# Altium schematic symbol library symbols.SchLib: 49 symbols
Pins are listed as number, name and electrical type; pins without a type are passive.

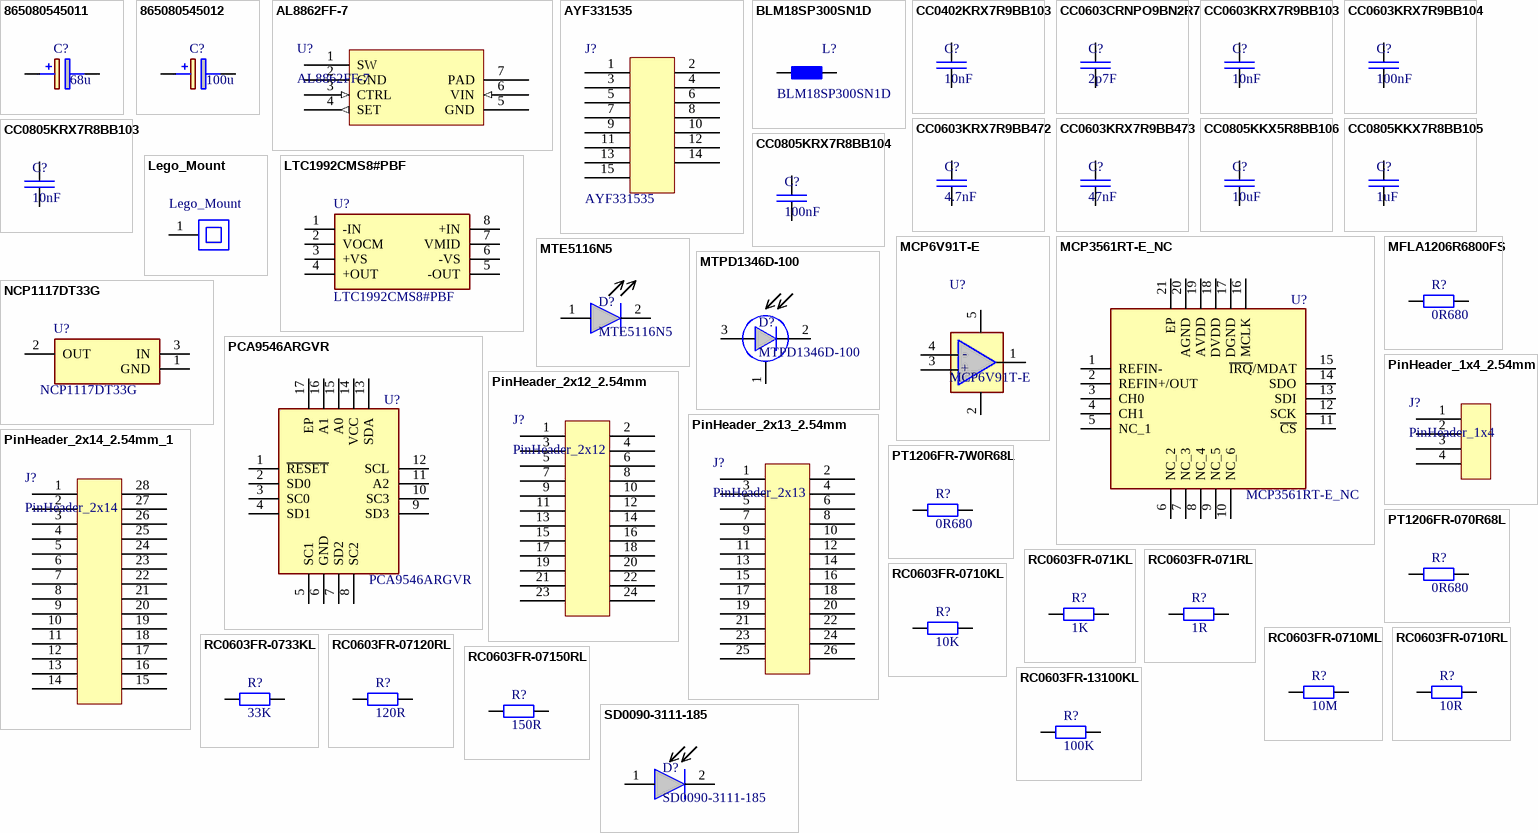
[diagram p0: symbols 865080545011 to SD0090-3111-185]

## 865080545011
designator C?, comment 68u
Wurth Elektronik 68uF 35 V dc Aluminium Electrolytic Capacitor, WCAP-ASLI Series 2000h 6.3 (Dia.) x 7.55mm; Manufacturer_Part_Number: 865080545012; Geometry.Height: 7.7mm; Mouser Part Number: 710-865080545012; Mouser Price/Stock: https://www.mouser.co.uk/ProductDetail/Wurth-Elektronik/865080545012?qs=0KOYDY2FL297tvB6LOdg5A%3D%3D; Manufacturer_Name: Wurth Elektronik; Datasheet Link: http://katalog.we-online.de/pbs/datasheet/865080545012.pdf; Value: 68u; Supplier 1: Digi-Key; Supplier Part Number 1: 732-8510-1-ND; Supplier 2: Digi-Key; Supplier Part Number 2: 732-8510-6-ND; Supplier 3: Mouser; Supplier Part Number 3: 710-865080545011
footprint CAPAE660X770N
pins: 1 +, 2 -

## 865080545012
designator C?, comment 100u
Wurth Elektronik 100uF 35 V dc Aluminium Electrolytic Capacitor, WCAP-ASLI Series 2000h 6.3 (Dia.) x 7.55mm; Manufacturer_Part_Number: 865080545012; Geometry.Height: 7.7mm; Mouser Part Number: 710-865080545012; Mouser Price/Stock: https://www.mouser.co.uk/ProductDetail/Wurth-Elektronik/865080545012?qs=0KOYDY2FL297tvB6LOdg5A%3D%3D; Manufacturer_Name: Wurth Elektronik; Datasheet Link: http://katalog.we-online.de/pbs/datasheet/865080545012.pdf; Value: 100u; Supplier 1: Digi-Key; Supplier Part Number 1: 732-8511-1-ND; Supplier 2: Digi-Key; Supplier Part Number 2: 732-8511-6-ND; Supplier 3: Mouser; Supplier Part Number 3: 710-865080545012
footprint CAPAE660X770N
pins: 1 +, 2 -

## AL8862FF-7
designator U?
AL8862FF-7 60V 1A STEP-DOWN LED DRIVER DFN; Supplier 1: Digi-Key; Supplier Part Number 1: 31-AL8862FF-7CT-ND; Supplier 2: Digi-Key; Supplier Part Number 2: 31-AL8862FF-7DKR-ND; Supplier 3: Mouser; Supplier Part Number 3: 621-AL8862FF-7
footprint AL8862FF-7 (AL8862FF-7 60V 1A STEP-DOWN LED DRIVER)
pins: 1 SW, 2 GND, 3 CTRL (in), 4 SET (out), 5 GND, 6 VIN (in), 7 PAD

## AYF331535
designator J?
AYF331535 FFC & FPC-Steckverbinder CONNECTOR SURFACE MOUNT; Supplier 1: Mouser; Supplier Part Number 1: 769-AYF331535; Supplier 2: Digi-Key; Supplier Part Number 2: 255-3053-1-ND
footprint AYF331535 (AYF331535 FFC & FPC-Steckverbinder CONNECTOR SURFACE MOUNT)
pins: 1, 2, 3, 4, 5, 6, 7, 8, 9, 10, 11, 12, 13, 14, 15

## BLM18SP300SN1D
designator L?
Ferrite Beads 0603 30ohm 10% 6A; Manufacturer_Name: Murata Electronics; Geometry.Height: 0.95mm; Mouser Part Number: 81-BLM18SP300SN1D; Mouser Price/Stock: https://www.mouser.co.uk/ProductDetail/Murata-Electronics/BLM18SP300SN1D?qs=W%2FMpXkg%252BdQ4o%252BOP%252B6m8FYA%3D%3D; Manufacturer_Part_Number: BLM18SP300SN1D; Datasheet Link: http://www.murata.com/~/media/webrenewal/support/library/catalog/products/emc/emifil/c31e.ashx?la=en-gb; Supplier 1: Digi-Key; Supplier Part Number 1: 490-BLM18SP300SN1DCT-ND; Supplier 2: Digi-Key; Supplier Part Number 2: 490-BLM18SP300SN1DDKR-ND; Supplier 3: Mouser; Supplier Part Number 3: 81-BLM18SP300SN1D
footprint Chip2PinSM127P600-8N
pins: 1, 2

## CC0402KRX7R9BB103
designator C?, comment 10nF
CAP 10nF SM0402 X7R 50V YAGEO CC2; Manufacturer Part Number: CC0603KRX7R9BB103; Tolerance (%): 10; Voltage Rating (Volts): 50; Category: Capacitor; Manufacturer: Yageo; Package: 0603; Value: 10nF; ComponentLink1URL: http://www.yageo.com; ComponentLink1Description: Manufacturer Website; Supplier 1: Farnell; Supplier Part Number 1: 3369167; Supplier 2: Mouser; Supplier Part Number 2: 603-CC402KRX7R9BB103; Supplier 3: Digi-Key; Supplier Part Number 3: 311-1349-1-ND
footprint CAP_SM0402_YAGEOCC2_N (Capacitor, Yageo CC Class2, SM0402, IPC Medium Density)
pins: 1, 2

## CC0603CRNPO9BN2R7
designator C?, comment 2p7F
CAP 2.7pF (2p7F) SM0603 NPO 50V YAGEO CC2; Manufacturer Part Number: CC0603CRNPO9BN2R7; Tolerance (%): 10; Voltage Rating (Volts): 50; Category: Capacitor; Manufacturer: Yageo; Package: 0603; Value: 2p7F; Supplier Part Number 1: 721890; Supplier 1: Farnell; ComponentLink1URL: http://www.yageo.com; ComponentLink1Description: Manufacturer Website; Supplier 2: Digi-Key
footprint CAP_SM0603_YAGEOCC2_N (Capacitor, Yageo CC Class2, SM0603, IPC Medium Density)
pins: 1, 2

## CC0603KRX7R9BB103
designator C?, comment 10nF
CAP 10nF SM0603 X7R 50V YAGEO CC2; Manufacturer Part Number: CC0603KRX7R9BB103; Tolerance (%): 10; Voltage Rating (Volts): 50; Category: Capacitor; Manufacturer: Yageo; Package: 0603; Value: 10nF; Supplier Part Number 1: 722236; Supplier 1: Farnell; ComponentLink1URL: http://www.yageo.com; ComponentLink1Description: Manufacturer Website; Supplier 2: Digi-Key; Supplier Part Number 2: 311-1085-1-ND
footprint CAP_SM0603_YAGEOCC2_N (Capacitor, Yageo CC Class2, SM0603, IPC Medium Density)
pins: 1, 2

## CC0603KRX7R9BB104
designator C?, comment 100nF
CAP 100nF SM0603 X7R 50V YAGEO CC2; Manufacturer Part Number: CC0603KRX7R9BB104; Tolerance (%): 10; Voltage Rating (Volts): 50; Category: Capacitor; Manufacturer: Yageo; Package: 0603; Value: 100nF; ComponentLink1URL: http://www.yageo.com; ComponentLink1Description: Manufacturer Website; Supplier 1: Farnell; Supplier Part Number 1: 1362556; Supplier 2: Mouser; Supplier Part Number 2: 603-CC603KRX7R9BB104
footprint CAP_SM0603_YAGEOCC2_N (Capacitor, Yageo CC Class2, SM0603, IPC Medium Density)
pins: 1, 2

## CC0603KRX7R9BB472
designator C?, comment 4.7nF
CAP 4.7nF SM0603 X7R 50V YAGEO CC2; Manufacturer Part Number: CC0603KRX7R9BB223; Tolerance (%): 10; Voltage Rating (Volts): 50; Category: Capacitor; Manufacturer: Yageo; Package: 0603; Value: 4.7nF; ComponentLink1URL: http://www.yageo.com; ComponentLink1Description: Manufacturer Website; Supplier 1: Digi-Key; Supplier Part Number 1: 311-1083-1-ND; Supplier 2: Digi-Key; Supplier Part Number 2: 311-1083-6-ND; Supplier 3: Mouser; Supplier Part Number 3: 603-C0603KRX7R9BB472
footprint CAP_SM0603_YAGEOCC2_N (Capacitor, Yageo CC Class2, SM0603, IPC Medium Density)
pins: 1, 2

## CC0603KRX7R9BB473
designator C?, comment 47nF
CAP 47nF SM0603 X7R 50V YAGEO CC2; Manufacturer Part Number: CC0603KRX7R9BB223; Tolerance (%): 10; Voltage Rating (Volts): 50; Category: Capacitor; Manufacturer: Yageo; Package: 0603; Value: 47nF; ComponentLink1URL: http://www.yageo.com; ComponentLink1Description: Manufacturer Website; Supplier 1: Digi-Key; Supplier Part Number 1: 311-1427-1-ND; Supplier 2: Digi-Key; Supplier Part Number 2: 311-1427-6-ND; Supplier 3: Mouser; Supplier Part Number 3: 603-C0603KRX7R9BB473
footprint CAP_SM0603_YAGEOCC2_N (Capacitor, Yageo CC Class2, SM0603, IPC Medium Density)
pins: 1, 2

## CC0805KKX5R8BB106
designator C?, comment 10uF
CAP 10uF SM0805 X5R 16V YAGEO CC2; Manufacturer Part Number: CC0805KKX7R8BB225; Tolerance (%): 10; Voltage Rating (Volts): 25; Category: Capacitor; Manufacturer: Yageo; Package: 0805; Value: 10uF; Supplier Part Number 1: 1458904; Supplier 1: Farnell; ComponentLink1URL: http://www.yageo.com; ComponentLink1Description: Manufacturer Website; Supplier 2: Digi-Key
footprint CAP_SM0805_YAGEOCC2_N (Capacitor, Yageo CC Class2, SM0805, IPC Medium Density)
pins: 1, 2

## CC0805KKX7R8BB105
designator C?, comment 1uF
CAP 1uF SM0805 X7R 25V YAGEO CC2; Manufacturer Part Number: CC0805KKX7R8BB105; Tolerance (%): 10; Voltage Rating (Volts): 25; Category: Capacitor; Manufacturer: Yageo; Package: 0805; Value: 1uF; ComponentLink1URL: http://www.yageo.com; ComponentLink1Description: Manufacturer Website; Supplier 1: Farnell; Supplier Part Number 1: 1458903; Supplier 2: Digi-Key; Supplier Part Number 2: 311-1456-1-ND; Supplier 3: Mouser; Supplier Part Number 3: 603-CC805KKX7R8BB105
footprint CAP_SM0805_YAGEOCC2_N (Capacitor, Yageo CC Class2, SM0805, IPC Medium Density)
pins: 1, 2

## CC0805KRX7R8BB103
designator C?, comment 10nF
CAP 10nF SM0805 X7R 25V YAGEO CC2; Manufacturer Part Number: CC0805KRX7R8BB103; Tolerance (%): 10; Voltage Rating (Volts): 25; Category: Capacitor; Manufacturer: Yageo; Package: 0805; Value: 10nF; Supplier Part Number 1: 3019767; Supplier 1: Farnell; ComponentLink1URL: http://www.yageo.com; ComponentLink1Description: Manufacturer Website
footprint CAP_SM0805_YAGEOCC2_N (Capacitor, Yageo CC Class2, SM0805, IPC Medium Density)
pins: 1, 2

## CC0805KRX7R8BB104
designator C?, comment 100nF
CAP 100nF SM0805 X7R 25V YAGEO CC2; Manufacturer Part Number: CC0805KRX7R8BB104; Tolerance (%): 10; Voltage Rating (Volts): 25; Category: Capacitor; Manufacturer: Yageo; Package: 0805; Value: 100nF; ComponentLink1URL: http://www.yageo.com; ComponentLink1Description: Manufacturer Website; Supplier 1: Farnell; Supplier Part Number 1: 644249; Supplier 2: Digi-Key; Supplier Part Number 2: 311-1141-1-ND; Supplier 3: Mouser; Supplier Part Number 3: 603-CC805KRX7R8BB104
footprint CAP_SM0805_YAGEOCC2_N (Capacitor, Yageo CC Class2, SM0805, IPC Medium Density)
pins: 1, 2

## Lego_Mount
designator M?
footprint Lego_Mount
pins: 1

## LTC1992CMS8#PBF
designator U?
LTC1992CMS8#PBF Analog Devices, Differential Amplifier 3MHz Rail to Rail Output 8-Pin MSOP; Geometry.Height: 1.1mm; Mouser Part Number: 584-LTC1992CMS8#PBF; Mouser Price/Stock: https://www.mouser.co.uk/ProductDetail/Analog-Devices/LTC1992CMS8PBF?qs=hVkxg5c3xu9zI7TrZNbtXw%3D%3D; Manufacturer_Name: Analog Devices; Manufacturer_Part_Number: LTC1992CMS8#PBF; Datasheet Link: *; Supplier 1: Digi-Key; Supplier Part Number 1: 505-LTC1992CMS8#PBF-ND; Supplier 2: Mouser; Supplier Part Number 2: 584-LTC1992CMS8#PBF
footprint SOP65P490X110-8N
pins: 1 -IN, 2 VOCM, 3 +VS, 4 +OUT, 5 -OUT, 6 -VS, 7 VMID, 8 +IN

## MCP6V91T-E
designator U?
MCP6V91T-E, Precision Amplifiers Zero Drift Op Amp Single, E Temp; Manufacturer_Name: Texas Instruments; Manufacturer_Part_Number: TLC272CDR; Geometry.Height: 1.75mm; Mouser Part Number: 595-TLC272CDR; Mouser Price/Stock: https://www.mouser.co.uk/ProductDetail/Texas-Instruments/TLC272CDR?qs=xJkDX%2FqrskPeOaaOE3DKWA%3D%3D; Datasheet Link: http://www.ti.com/lit/ds/symlink/tlc272.pdf; Supplier 1: Mouser; Supplier Part Number 1: 595-TLC272CDR; Supplier 2: Digi-Key; Supplier Part Number 2: 296-1310-1-ND; Supplier 3: Digi-Key; Supplier Part Number 3: 296-1310-6-ND
footprint SOT23127P600-8N
pins: 1 VOUT, 2 VSS, 3 VIN+, 4 VIN-, 5 VDD
text: -; +

## MCP3561RT-E_NC
designator U?
Microchip, 24 bit- ADC 153.6ksps, 20-Pin UQFN; Manufacturer_Part_Number: MCP3561RT-E/NC; Geometry.Height: 0.6mm; Mouser Part Number: 579-MCP3561RT-E/NC; Mouser Price/Stock: https://www.mouser.co.uk/ProductDetail/Microchip-Technology-Atmel/MCP3561RT-E-NC?qs=W%2FMpXkg%252BdQ521c60%252BgBGPA%3D%3D; Manufacturer_Name: Microchip; Datasheet Link: https://www.microchip.com/content/dam/mchp/documents/APID/ProductDocuments/DataSheets/MCP3561_2_4R-Data-Sheet-DS200006391C.pdf; Supplier 1: Digi-Key; Supplier Part Number 1: 150-MCP3561RT-E/NCCT-ND; Supplier 2: Digi-Key; Supplier Part Number 2: 150-MCP3561RT-E/NCDKR-ND; Supplier 3: Mouser; Supplier Part Number 3: 579-MCP3561RT-E/NC
footprint QFN40P300X300X60-21N-D
pins: 1 REFIN-, 2 REFIN+/OUT, 3 CH0, 4 CH1, 5 NC_1, 6 NC_2, 7 NC_3, 8 NC_4, 9 NC_5, 10 NC_6, 11 ~{CS}, 12 SCK, 13 SDI, 14 SDO, 15 ~{IRQ}/MDAT, 16 MCLK, 17 DGND, 18 DVDD, 19 AVDD, 20 AGND, 21 EP

## MFLA1206R6800FS
designator R?, comment 0R680
RES 0R680 SM1206 Eaton 500mW; Manufacturer: Yageo; Manufacturer Part Number: RC0603FR-07150RL; Power (Watts): 0.1; Resistance (Ohms): 150; Tolerance (%): 1; Category: Resistor; Package: 0603; Value: 0R680; ComponentLink1URL: http://www.yageo.com; ComponentLink1Description: Manufacturer Website; Supplier 1: Digi-Key; Supplier Part Number 1: 283-MFLA1206R6800FSCT-ND; Supplier 2: Digi-Key; Supplier Part Number 2: 283-MFLA1206R6800FSDKR-ND; Supplier 3: Mouser; Supplier Part Number 3: 504-MFLA1206R6800FS
footprint MFLA1206 (Footprint not found)
pins: 1, 2

## MTE5116N5
designator D?
MTE5116N5 SWIR Infrared Emitter 1650nm; Supplier 1: Digi-Key; Supplier Part Number 1: 1125-MTE5116N5-ND; Supplier 2: Mouser; Supplier Part Number 2: 193-MTE5116N5
footprint MTE5116N5
pins: 1 Anode, 2 Cathode

## MTPD1346D-100
designator D?
MTPD1346D-100 High Speed InGaAs PIN Photodiode 600-1750nm; Supplier 1: Digi-Key; Supplier Part Number 1: 1125-1326-ND; Supplier 2: Mouser; Supplier Part Number 2: 193-MTPD1346D-100
footprint MTPD1346D100
pins: 1 Case, 2 Cathode, 3 Anode

## NCP1117DT33G
designator U?
Linear Voltage Regulator IC Positive Fixed 1 Output 1A DPAK; Manufacturer_Name: onsemi; Geometry.Height: 2.51mm; Mouser Part Number: 863-NCP1117DT33G; Mouser Price/Stock: https://www.mouser.co.uk/ProductDetail/onsemi/NCP1117DT33G?qs=Gev%252BmEvV0ib8cFCgG6Q0fQ%3D%3D; Manufacturer_Part_Number: NCP1117DT33G; Datasheet Link: https://www.onsemi.com/pdf/datasheet/ncp1117-d.pdf; Supplier 1: Mouser; Supplier Part Number 1: 863-NCP1117DT33G; Supplier 2: Digi-Key; Supplier Part Number 2: NCP1117DT33GOS-ND
footprint NCP1117DT33G
pins: 1 GND, 2 OUT, 3 IN

## PCA9546ARGVR
designator U?
4-Channel I2C And SMBus Switch With Reset Functions; Manufacturer_Name: Texas Instruments; Geometry.Height: 1mm; Mouser Part Number: 595-PCA9546ARGVR; Mouser Price/Stock: https://www.mouser.co.uk/ProductDetail/Texas-Instruments/PCA9546ARGVR?qs=iSMark9AYDVOIxSBd0ujBA%3D%3D; Manufacturer_Part_Number: PCA9546ARGVR; Datasheet Link: http://www.ti.com/lit/gpn/pca9546a; Supplier 1: Mouser; Supplier Part Number 1: 595-PCA9546ARGVR; Supplier 2: Digi-Key; Supplier Part Number 2: 296-21771-1-ND; Supplier 3: Digi-Key; Supplier Part Number 3: 296-21771-6-ND
footprint QFN65P400X400X100-17N-D
pins: 1 ~{RESET}, 2 SD0, 3 SC0, 4 SD1, 5 SC1, 6 GND, 7 SD2, 8 SC2, 9 SD3, 10 SC3, 11 A2, 12 SCL, 13 SDA, 14 VCC, 15 A0, 16 A1, 17 EP

## PinHeader_1x4_2.54mm
designator J?, comment PinHeader_1x4
PinHeader_1x4 2.54mm Pitch
footprint PinHeader_1x4_2.54mm (Footprint not found)
pins: 1, 2, 3, 4

## PinHeader_2x12_2.54mm
designator J?, comment PinHeader_2x12
PinHeader_2x12 2.54mm Pitch
footprint PinHeader_2x12_2.54mm
pins: 1, 2, 3, 4, 5, 6, 7, 8, 9, 10, 11, 12, 13, 14, 15, 16, 17, 18, 19, 20, 21, 22, 23, 24

## PinHeader_2x13_2.54mm
designator J?, comment PinHeader_2x13
PinHeader_2x13 2.54mm Pitch
footprint PinHeader_2x13_2.54mm (Footprint not found)
pins: 1, 2, 3, 4, 5, 6, 7, 8, 9, 10, 11, 12, 13, 14, 15, 16, 17, 18, 19, 20, 21, 22, 23, 24, 25, 26

## PinHeader_2x14_2.54mm_1
designator J?, comment PinHeader_2x14
PinHeader_2x14 2.54mm Pitch
footprint PinHeader_2x14_2.54mm (Footprint not found)
pins: 1, 2, 3, 4, 5, 6, 7, 8, 9, 10, 11, 12, 13, 14, 15, 16, 17, 18, 19, 20, 21, 22, 23, 24, 25, 26, 27, 28

## PT1206FR-7W0R68L
designator R?, comment 0R680
RES 0R680 SM1206 YAGEO 500mW; Manufacturer Part Number: RC0603FR-07150RL; Power (Watts): 0.1; Resistance (Ohms): 150; Tolerance (%): 1; Category: Resistor; Manufacturer: Yageo; Package: 0603; Value: 0R680; ComponentLink1URL: http://www.yageo.com; ComponentLink1Description: Manufacturer Website; Supplier 1: Digi-Key; Supplier Part Number 1: 13-PT1206FR-7W0R68LDKR-ND; Supplier 2: Digi-Key; Supplier Part Number 2: 13-PT1206FR-7W0R68LCT-ND; Supplier 3: Mouser; Supplier Part Number 3: 603-PT1206FR-7W0R68L
footprint PT1206FR
pins: 1, 2

## PT1206FR-070R68L
designator R?, comment 0R680
RES 0R680 SM1206 YAGEO 250mW; Manufacturer Part Number: RC0603FR-07150RL; Power (Watts): 0.1; Resistance (Ohms): 150; Tolerance (%): 1; Category: Resistor; Manufacturer: Yageo; Package: 0603; Value: 0R680; ComponentLink1URL: http://www.yageo.com; ComponentLink1Description: Manufacturer Website; Supplier 1: Mouser; Supplier Part Number 1: 603-PT1206FR-070R68L; Supplier 2: Digi-Key; Supplier Part Number 2: 13-PT1206FR-070R68LCT-ND; Supplier 3: Digi-Key; Supplier Part Number 3: 13-PT1206FR-070R68LDKR-ND
footprint PT1206FR
pins: 1, 2

## RC0603FR-071KL
designator R?, comment 1K
RES 1K SM0603 YAGEO RC_L; Manufacturer Part Number: RC0603FR-071KL; Power (Watts): 0.1; Resistance (Ohms): 1000; Tolerance (%): 1; Category: Resistor; Manufacturer: Yageo; Package: 0603; Value: 1K; Supplier Part Number 1: 9238484; Supplier 1: Farnell; ComponentLink1URL: http://www.yageo.com; ComponentLink1Description: Manufacturer Website; Supplier 2: Digi-Key; Supplier Part Number 2: 311-1.00KHRCT-ND
footprint RES_SM0603_YAGEORC_N (Resistor, Yageo RC_L, SM0603, IPC Medium Density)
pins: 1, 2

## RC0603FR-071RL
designator R?, comment 1R
RES 1R SM0603YAGEO RC_L; Manufacturer: Yageo; Manufacturer Part Number: RC0805FR-0710RL; Power (Watts): 0.125; Resistance (Ohms): 10; Tolerance (%): 1; Category: Resistor; Package: 0805; Value: 1R; ComponentLink1Description: Manufacturer Website; ComponentLink1URL: http://www.yageo.com; Supplier 1: Digi-Key; Supplier Part Number 1: 311-1.00HRCT-ND; Supplier 2: Digi-Key; Supplier Part Number 2: 311-1.00HRDKR-ND; Supplier 3: Mouser; Supplier Part Number 3: 603-RC0603FR-071RL
footprint RES_SM0603_YAGEORC_N (Resistor, Yageo RC_L, SM0603, IPC Medium Density)
pins: 1, 2

## RC0603FR-0710KL
designator R?, comment 10K
RES 10K SM0603 YAGEO RC_L; Manufacturer Part Number: RC0603FR-0710KL; Power (Watts): 0.1; Resistance (Ohms): 10000; Tolerance (%): 1; Category: Resistor; Manufacturer: Yageo; Package: 0603; Value: 10K; Supplier Part Number 1: 9238603; Supplier 1: Farnell; ComponentLink1URL: http://www.yageo.com; ComponentLink1Description: Manufacturer Website; Supplier 2: Digi-Key; Supplier Part Number 2: 311-10.0KHRCT-ND
footprint RES_SM0603_YAGEORC_N (Resistor, Yageo RC_L, SM0603, IPC Medium Density)
pins: 1, 2

## RC0603FR-0710ML
designator R?, comment 10M
RES 10M SM0603 YAGEO RC_L; Manufacturer Part Number: RC0603FR-0710ML; Power (Watts): 0.1; Resistance (Ohms): 10000000; Tolerance (%): 1; Category: Resistor; Manufacturer: Yageo; Package: 0603; Value: 10M; Supplier Part Number 1: 9238964; Supplier 1: Farnell; ComponentLink1URL: http://www.yageo.com; ComponentLink1Description: Manufacturer Website; Supplier 2: Digi-Key; Supplier Part Number 2: 311-10.0MHRCT-ND
footprint RES_SM0603_YAGEORC_N (Resistor, Yageo RC_L, SM0603, IPC Medium Density)
pins: 1, 2

## RC0603FR-0710RL
designator R?, comment 10R
RES 10R SM0603 YAGEO RC_L; Manufacturer Part Number: RC0603FR-0710RL; Power (Watts): 0.1; Resistance (Ohms): 10; Tolerance (%): 1; Category: Resistor; Manufacturer: Yageo; Package: 0603; Value: 10R; Supplier Part Number 1: 9238247; Supplier 1: Farnell; ComponentLink1URL: http://www.yageo.com; ComponentLink1Description: Manufacturer Website; Supplier 2: Digi-Key; Supplier Part Number 2: 311-10.0HRCT-ND
footprint RES_SM0603_YAGEORC_N (Resistor, Yageo RC_L, SM0603, IPC Medium Density)
pins: 1, 2

## RC0603FR-0733KL
designator R?, comment 33K
RES 33K SM0603 YAGEO RC_L; Manufacturer Part Number: RC0603FR-0733KL; Power (Watts): 0.1; Resistance (Ohms): 33000; Tolerance (%): 1; Category: Resistor; Manufacturer: Yageo; Package: 0603; Value: 33K; Supplier Part Number 1: 9238662; Supplier 1: Farnell; ComponentLink1URL: http://www.yageo.com; ComponentLink1Description: Manufacturer Website; Supplier 2: Digi-Key; Supplier Part Number 2: 311-33.0KHRCT-ND
footprint RES_SM0603_YAGEORC_N (Resistor, Yageo RC_L, SM0603, IPC Medium Density)
pins: 1, 2

## RC0603FR-07120RL
designator R?, comment 120R
RES 120R SM0603 YAGEO RC_L; Manufacturer Part Number: RC0603FR-07120RL; Power (Watts): 0.1; Resistance (Ohms): 120; Tolerance (%): 1; Category: Resistor; Manufacturer: Yageo; Package: 0603; Value: 120R; Supplier Part Number 1: 9238379; Supplier 1: Farnell; ComponentLink1URL: http://www.yageo.com; ComponentLink1Description: Manufacturer Website; Supplier 2: Digi-Key; Supplier Part Number 2: 311-120HRCT-ND
footprint RES_SM0603_YAGEORC_N (Resistor, Yageo RC_L, SM0603, IPC Medium Density)
pins: 1, 2

## RC0603FR-07150RL
designator R?, comment 150R
RES 150R SM0603 YAGEO RC_L; Manufacturer Part Number: RC0603FR-07150RL; Power (Watts): 0.1; Resistance (Ohms): 150; Tolerance (%): 1; Category: Resistor; Manufacturer: Yageo; Package: 0603; Value: 150R; Supplier Part Number 1: 9238387; Supplier 1: Farnell; ComponentLink1URL: http://www.yageo.com; ComponentLink1Description: Manufacturer Website; Supplier 2: Digi-Key; Supplier Part Number 2: 311-150HRCT-ND
footprint RES_SM0603_YAGEORC_N (Resistor, Yageo RC_L, SM0603, IPC Medium Density)
pins: 1, 2

## RC0603FR-13100KL
designator R?, comment 100K
RES 100K SM0603 YAGEO RC_L; Manufacturer Part Number: RC0603FR-13100KL; Power (Watts): 0.1; Resistance (Ohms): 100000; Tolerance (%): 1; Category: Resistor; Manufacturer: Yageo; Package: 0603; Value: 100K; Supplier Part Number 1: 2309107; Supplier 1: Farnell; ComponentLink1URL: http://www.yageo.com; ComponentLink1Description: Manufacturer Website; Supplier 2: Digi-Key
footprint RES_SM0603_YAGEORC_N (Resistor, Yageo RC_L, SM0603, IPC Medium Density)
pins: 1, 2

## SD0090-3111-185
designator D?
SD0090-3111-185 SMD InGaAs Photodiode 900-1650nm; Supplier 1: Mouser; Supplier Part Number 1: 846-0090-3111-185; Supplier 2: Digi-Key; Supplier Part Number 2: 209-0090-3111-185CT-ND; Supplier 3: Digi-Key; Supplier Part Number 3: 209-0090-3111-185DKR-ND
footprint SD00903111185
pins: 1 Anode, 2 Cathode

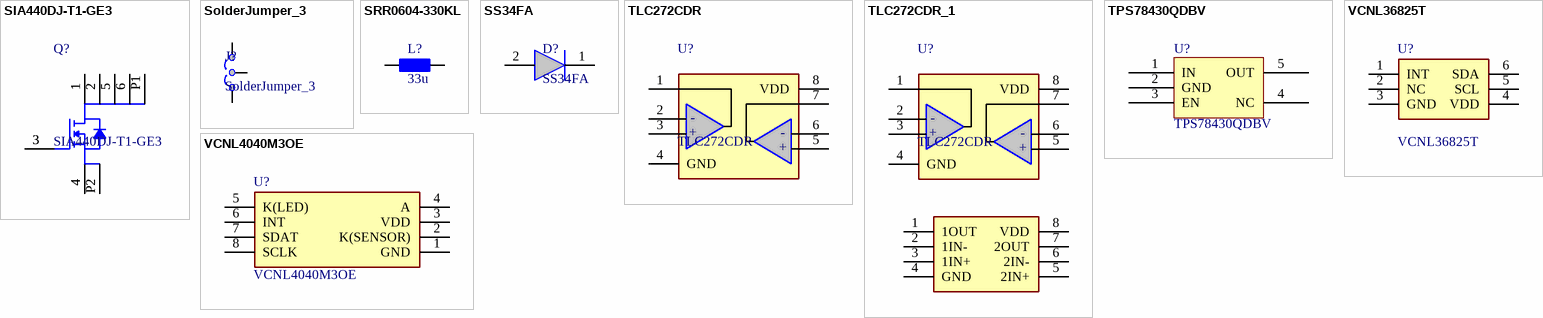
[diagram p1: symbols SIA440DJ-T1-GE3 to VCNL36825T]

## SIA440DJ-T1-GE3
designator Q?
MOSFET 40V Vds 12V Vgs PowerPAK SC-70; Manufacturer_Name: Vishay; Geometry.Height: 0.8mm; Mouser Part Number: 78-SIA440DJ-T1-GE3; Mouser Price/Stock: https://www.mouser.co.uk/ProductDetail/Vishay-Semiconductors/SIA440DJ-T1-GE3?qs=c9a7l%2FSwUkKwNKYQuCLipQ%3D%3D; Manufacturer_Part_Number: SIA440DJ-T1-GE3; Datasheet Link: https://www.arrow.com/en/products/sia440dj-t1-ge3/vishay; Supplier 1: Mouser; Supplier Part Number 1: 78-SIA440DJ-T1-GE3; Supplier 2: Digi-Key; Supplier Part Number 2: SIA440DJ-T1-GE3CT-ND; Supplier 3: Digi-Key; Supplier Part Number 3: SIA440DJ-T1-GE3DKR-ND
footprint SIA440DJT1GE3
pins: 1 D, 1 D, 2 D, 2 D, 3 G, 3 G, 4 S, 4 S, 5 D, 5 D, 6 D, 6 D, P1 D, P1 D, P2 S, P2 S

## SolderJumper_3
designator J?
footprint SolderJumper3_1
pins: 1, 2, 3

## SRR0604-330KL
designator L?, comment 33u
IND 33uH 0604 SRR0604-330KL; Supplier 1: Digi-Key; Supplier Part Number 1: SRR0604-330KLCT-ND; Supplier 2: Digi-Key; Supplier Part Number 2: SRR0604-330KLDKR-ND; Supplier 3: Mouser; Supplier Part Number 3: 652-SRR0604-330KL; Value: 33u
footprint SRR0603-330KL (Precision Wire Wound Inductor, 2-Leads, Body 6,50x6,50mm, IPC Medium Density)
pins: 1, 2

## SS34FA
designator D?
SS34FA Schottky Barrier Rectifiers, Surface Mount, 3 A, 40 V; Supplier 1: Digi-Key; Supplier Part Number 1: SS34FACT-ND; Supplier 2: Digi-Key; Supplier Part Number 2: SS34FADKR-ND; Supplier 3: Mouser; Supplier Part Number 3: 512-SS34FA
footprint SS34FA (SS34FA Molded Diode, 2-Leads, Body 2,80x1,80mm, IPC Medium Density)
pins: 1 Cathode, 2 Anode

## TLC272CDR
designator U?
TLC272CDRG4, Dual Operational Amplifier 1.7MHz CMOS 5 to 15V, 8-Pin SOIC; Manufacturer_Name: Texas Instruments; Geometry.Height: 1.75mm; Mouser Part Number: 595-TLC272CDR; Mouser Price/Stock: https://www.mouser.co.uk/ProductDetail/Texas-Instruments/TLC272CDR?qs=xJkDX%2FqrskPeOaaOE3DKWA%3D%3D; Manufacturer_Part_Number: TLC272CDR; Datasheet Link: http://www.ti.com/lit/ds/symlink/tlc272.pdf; Supplier 1: Mouser; Supplier Part Number 1: 595-TLC272CDR; Supplier 2: Digi-Key; Supplier Part Number 2: 296-1310-1-ND; Supplier 3: Digi-Key; Supplier Part Number 3: 296-1310-6-ND
footprint SOIC127P600X175-8N
pins: 1 1OUT, 2 1IN-, 3 1IN+, 4 GND, 5 2IN+, 6 2IN-, 7 2OUT, 8 VDD
text: -; +

## TLC272CDR_1
designator U?, comment TLC272CDR
TLC272CDRG4, Dual Operational Amplifier 1.7MHz CMOS 5 to 15V, 8-Pin SOIC; Manufacturer_Name: Texas Instruments; Geometry.Height: 1.75mm; Mouser Part Number: 595-TLC272CDR; Mouser Price/Stock: https://www.mouser.co.uk/ProductDetail/Texas-Instruments/TLC272CDR?qs=xJkDX%2FqrskPeOaaOE3DKWA%3D%3D; Manufacturer_Part_Number: TLC272CDR; Datasheet Link: http://www.ti.com/lit/ds/symlink/tlc272.pdf; Supplier 1: Mouser; Supplier Part Number 1: 595-TLC272CDR; Supplier 2: Digi-Key; Supplier Part Number 2: 296-1310-1-ND; Supplier 3: Digi-Key; Supplier Part Number 3: 296-1310-6-ND
footprint SOIC127P600X175-8N
pins: 1 1OUT, 1 1OUT, 2 1IN-, 2 1IN-, 3 1IN+, 3 1IN+, 4 GND, 4 GND, 5 2IN+, 5 2IN+, 6 2IN-, 6 2IN-, 7 2OUT, 7 2OUT, 8 VDD, 8 VDD
text: -; +

## TPS78430QDBV
designator U?
TPS78430QDBV LDO 3.0V 300mA
footprint TPS784XXXQDBVRQ1_SOT23 (SOT23, 5-Leads, Body 2,90x2,80mm, Pitch 0,95mm, IPC Medium Density)
pins: 1 IN, 2 GND, 3 EN, 4 NC, 5 OUT

## VCNL4040M3OE
designator U?
Fully Integrated Proximity and Ambient Light Sensor with Infrared Emitter, I2C Interface, and Interrupt Function; Manufacturer_Name: Vishay; Geometry.Height: 1.15mm; Mouser Part Number: 78-VCNL4040M3OE; Mouser Price/Stock: https://www.mouser.co.uk/ProductDetail/Vishay-Semiconductors/VCNL4040M3OE?qs=p1ya7m3AA0C%252Buyxak4%252Bv6g%3D%3D; Manufacturer_Part_Number: VCNL4040M3OE; Datasheet Link: http://www.vishay.com/docs/84274/vcnl4040.pdf; Supplier 1: Mouser; Supplier Part Number 1: 78-VCNL4040M3OE; Supplier 2: Digi-Key; Supplier Part Number 2: VCNL4040M3OECT-ND; Supplier 3: Digi-Key; Supplier Part Number 3: VCNL4040M3OEDKR-ND
footprint VCNL4040M3OE
pins: 1 GND, 2 K(SENSOR), 3 VDD, 4 A, 5 K(LED), 6 INT, 7 SDAT, 8 SCLK

## VCNL36825T
designator U?
Proximity Sensors PROX SENS INTER VCSEL I2C-E4, IC SENSORS; Manufacturer_Name: Vishay; Geometry.Height: 0.6mm; Mouser Part Number: 78-VCNL36825T; Mouser Price/Stock: https://www.mouser.co.uk/ProductDetail/Vishay-Semiconductors/VCNL36825T?qs=pUKx8fyJudAlmgCr9cmOAQ%3D%3D; Manufacturer_Part_Number: VCNL36825T; Datasheet Link: https://www.vishay.com/docs/80235/vcnl36825t.pdf; Supplier 1: Mouser; Supplier Part Number 1: 78-VCNL36825T; Supplier 2: Digi-Key; Supplier Part Number 2: 751-VCNL36825TCT-ND; Supplier 3: Digi-Key; Supplier Part Number 3: 751-VCNL36825TDKR-ND
footprint VCNL36825T
pins: 1 INT, 2 NC, 3 GND, 4 VDD, 5 SCL, 6 SDA